# Altium schematic symbol library amirlib.SchLib: 361 symbols (part 2 of 2)
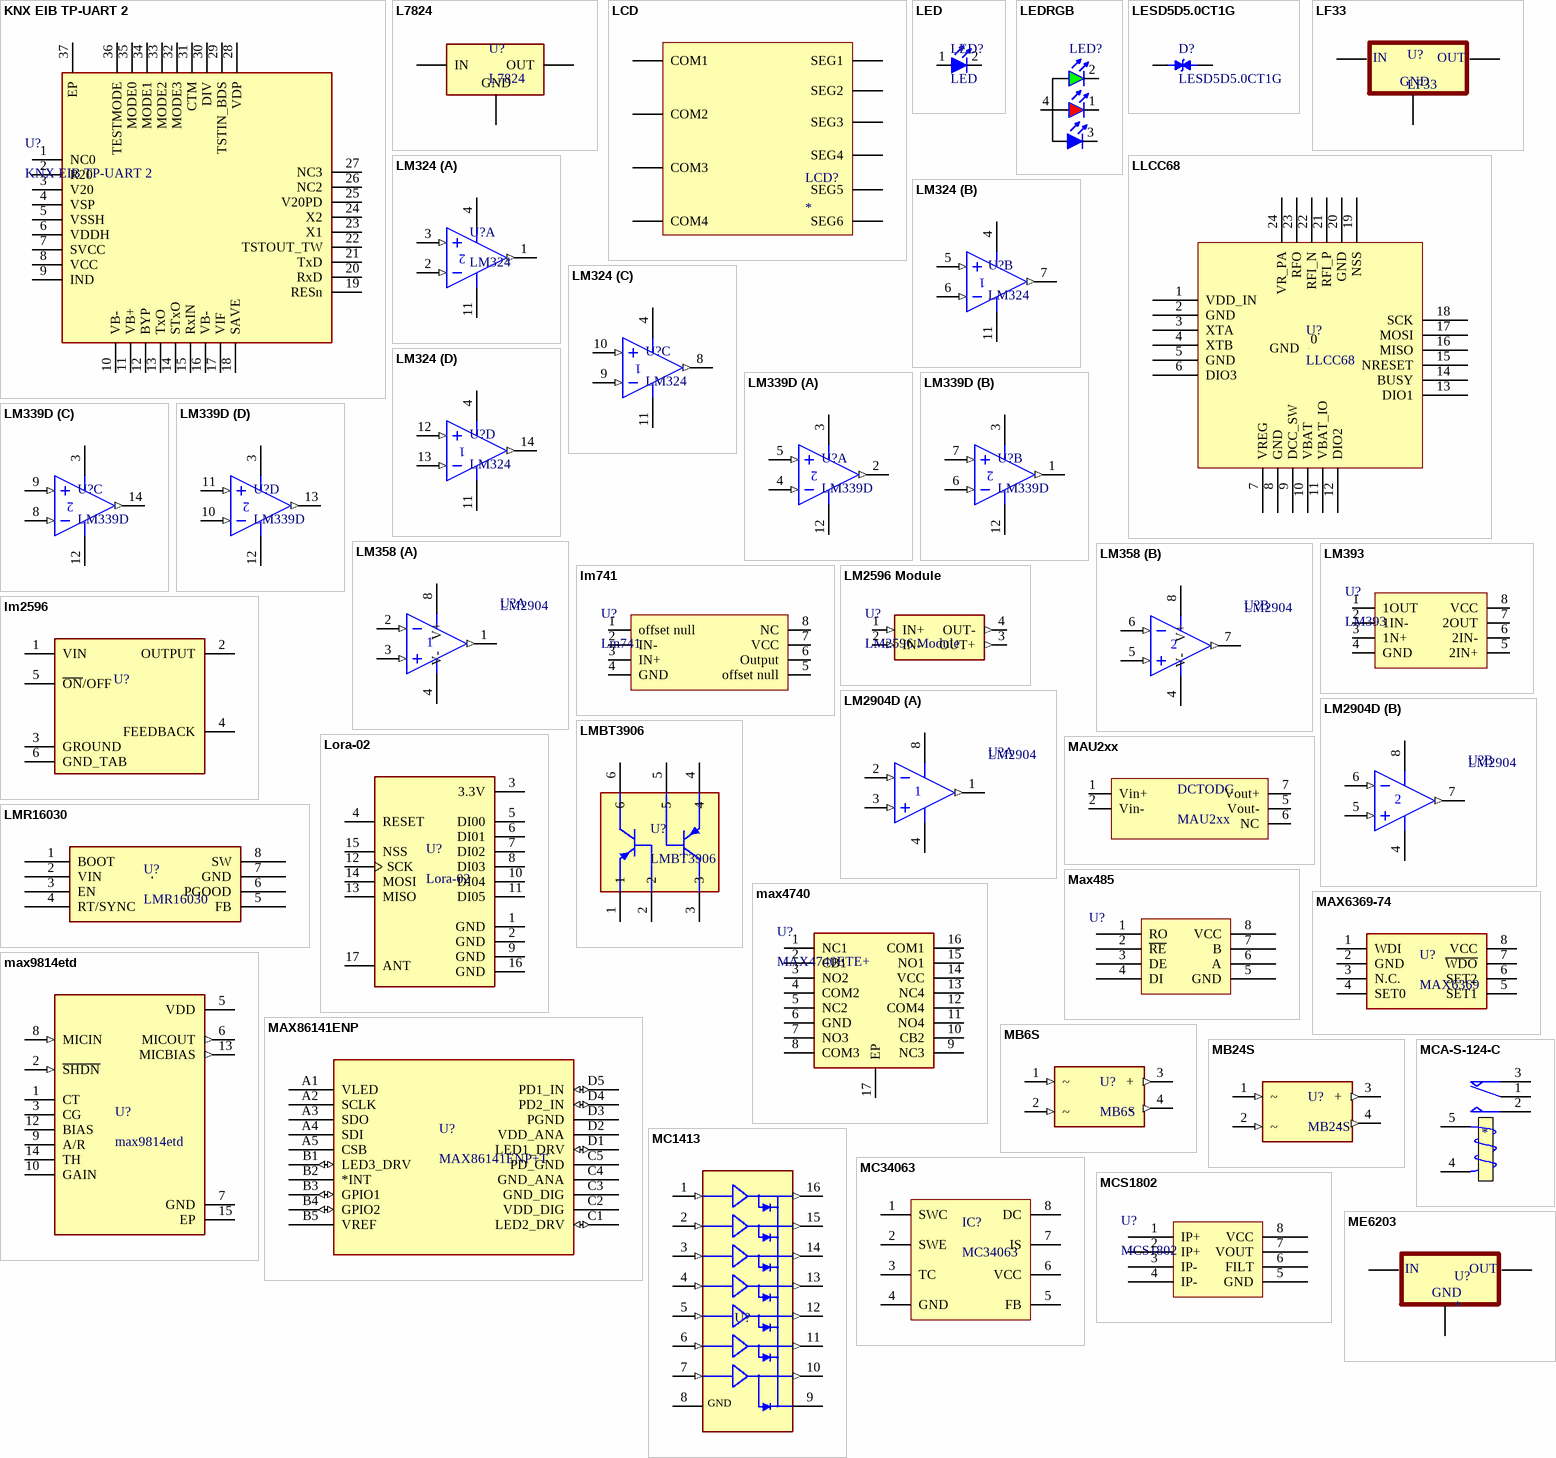
[diagram p11: symbols KNX EIB TP-UART 2 to ME6203]

## MC1413
designator U?  (value not drawn)
High Voltage, High Current / Darlington Transistor Arrays; VALUE: MC1413; SIZE: 18-SOP OR 16-SOP
footprint MC1413
pins: 1 IN_1 (in), 2 IN_2 (in), 3 IN_3 (in), 4 IN_4 (in), 5 IN_5 (in), 6 IN_6 (in), 7 IN_7 (in), 8 GND, 9 COM, 10 OUT_7 (out), 11 OUT_6 (out), 12 OUT_5 (out), 13 OUT_4 (out), 14 OUT_3 (out), 15 OUT_2 (out), 16 OUT_1 (out)

## MC34063
designator IC?
Buck, Boost Switching Regulator IC Positive or Negative Adjustable 1.25V 1 Output 1.5A (Switch) 8-SOIC (0.154, 3.90mm Width); Value: MC34063; Size: SO-8
footprint SO-8
pins: 1 SWC, 2 SWE, 3 TC, 4 GND, 5 FB, 6 VCC, 7 IS, 8 DC

## MCA-S-124-C
designator *  (value not drawn)
footprint MCA-S-124-C
pins: 1 COM, 2 NO, 3 NC, 4 T2, 5 T1

## MCS1802
designator U?
footprint SOIC8
pins: 1 IP+, 2 IP+, 3 IP-, 4 IP-, 5 GND, 6 FILT, 7 VOUT, 8 VCC

## ME6203
designator U?
footprint SOT89-3
pins: 1 OUT, 2 GND, 3 IN

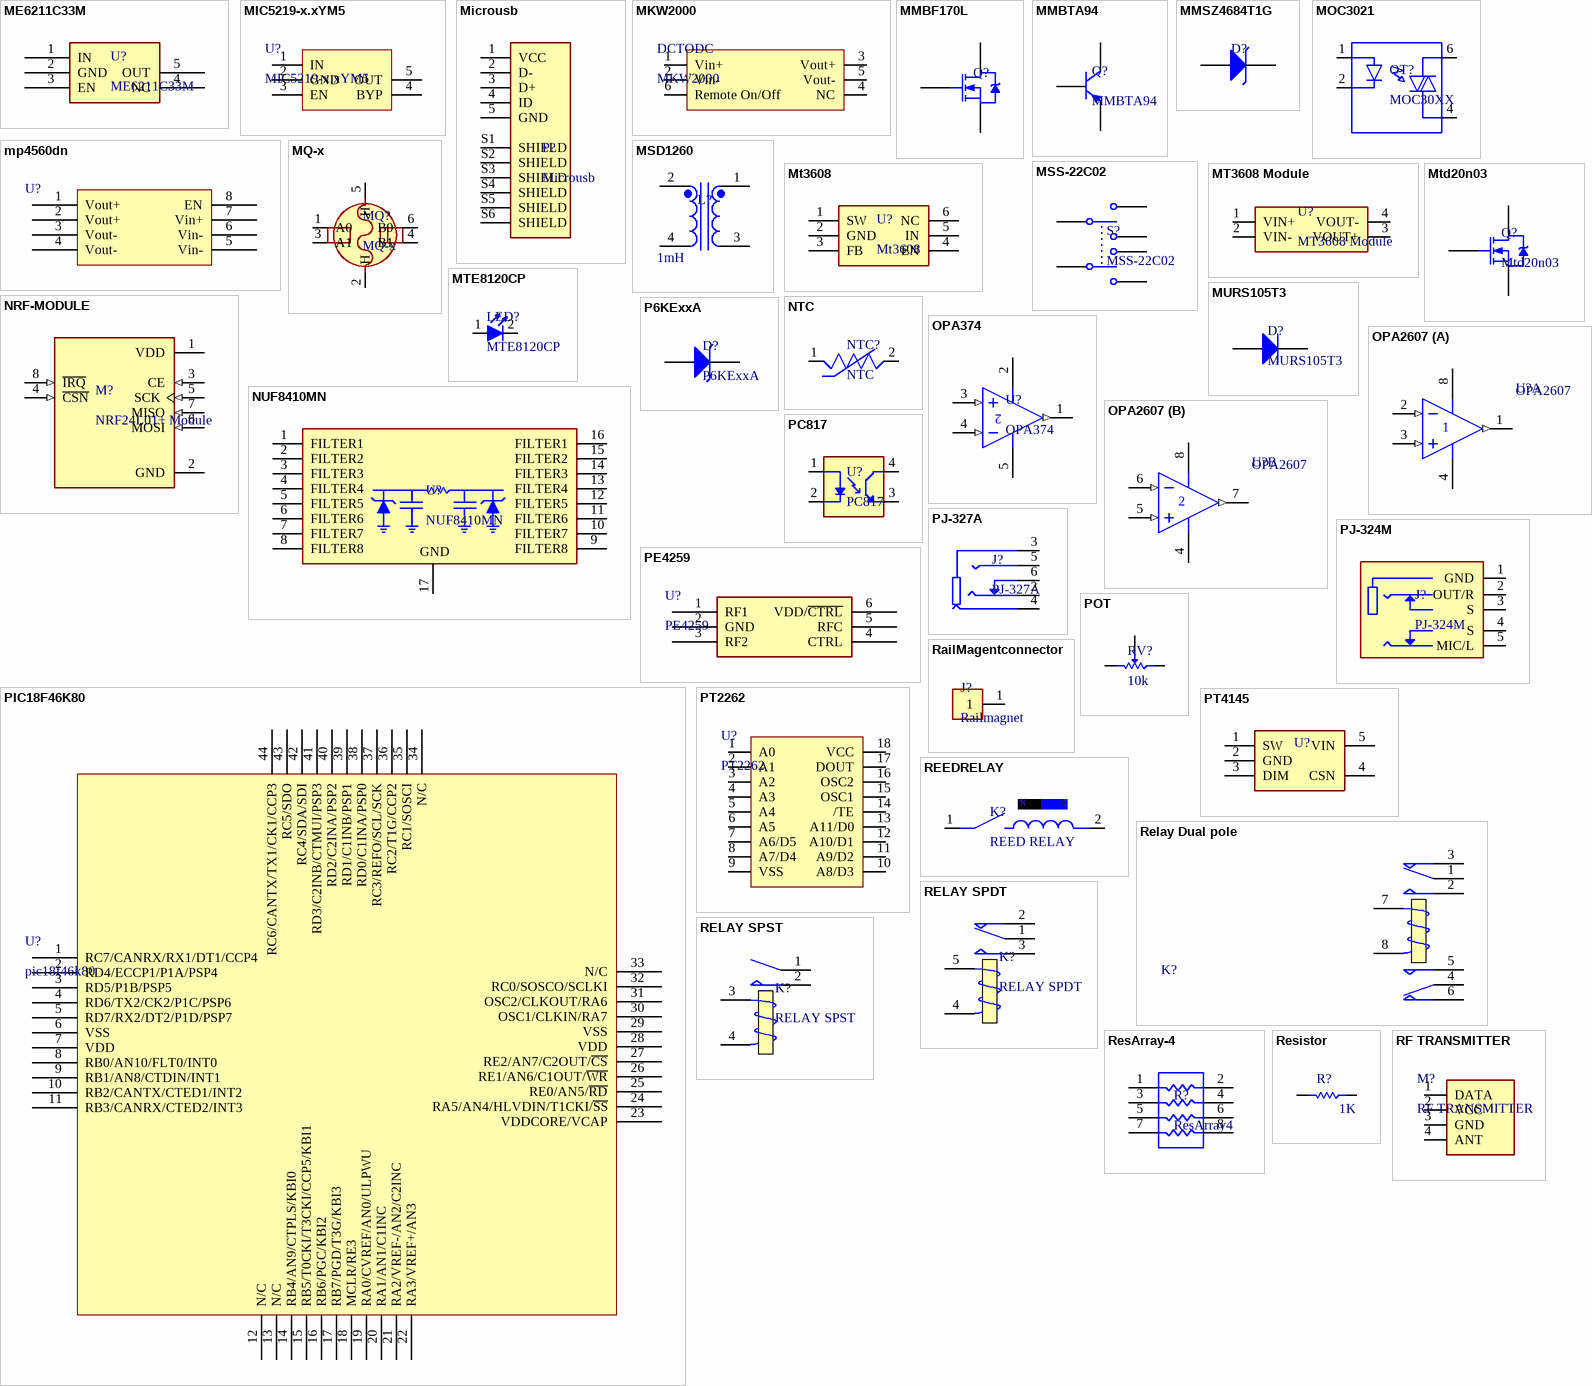
[diagram p7: symbols ME6211C33M to RF TRANSMITTER]

## ME6211C33M
designator U?
High Speed LDO Regulators,High PSRR,Lownoise,ME6211Series
footprint SOT23-5
pins: 1 IN, 2 GND, 3 EN, 4 NC, 5 OUT

## MIC5219-x.xYM5
designator U?
footprint SOT23-5
pins: 1 IN, 2 GND, 3 EN, 4 BYP, 5 OUT

## Microusb
designator P?
footprint microusb
footprint MICROUSB(SMD)
pins: 1 VCC, 2 D-, 3 D+, 4 ID, 5 GND, S1 SHIELD, S2 SHIELD, S3 SHIELD, S4 SHIELD, S5 SHIELD, S6 SHIELD

## MKW2000
designator DCTODC
DC/DC CONVERTER 12W ISOLATED
pins: 1 Vin+, 2 Vin-, 3 Vout+, 4 NC, 5 Vout-, 6 Remote On/Off

## MMBF170L
designator Q?, comment IRLML 2803  (value not drawn)
MOSFET – N-Channel, / SOT-23 / 500 mA, 60 V; VALUE: IRLML 2803; SIZE: SOT-23
footprint sot23
pins: 1 G, 2 D, 3 S

## MMBTA94
designator Q?
footprint sot23
pins: 1 B, 2 E, 3 C

## MMSZ4684T1G
designator D?  (value not drawn)
footprint SOD-123-2
pins: A, K

## MOC3021
designator OT?, comment MOC30XX
Optoisolator Triac; VALUE: MOC30XX; SIZE: PDIP-6 SMD
footprint MOC3021
pins: 1 ANODE, 2 CATODE, 4 MAIN_TERM2, 6 MAIN_TERM1

## mp4560dn
designator U?  (value not drawn)
footprint mp4560dn DC/DC
pins: 1 Vout+, 2 Vout+, 3 Vout-, 4 Vout-, 5 Vin-, 6 Vin-, 7 Vin+, 8 EN

## MQ-x
designator MQ?
Through Hole Gas Sensors
footprint MQ-x
pins: 1 A0, 2 H, 3 A1, 4 B1, 5 H, 6 B0

## MSD1260
designator L?, comment 1mH
VALUE: 1mH
footprint SMD-4P(INDUCTOR)
pins: 1, 2, 3, 4

## MSS-22C02
designator S?
Double-Pole, Double-Throw Switch
footprint MSS-22C02
pins: 1, 2, 3, 4, 5, 6

## Mt3608
designator U?
High Efficiency 1.2MHz / 2A Step Up Converter
footprint SOT23-6
pins: 1 SW, 2 GND, 3 FB, 4 EN, 5 IN, 6 NC

## MT3608 Module
designator U?
High Efficiency 1.2MHz / 2A Step Up Converter
footprint MT3608 MODULE
pins: 1 VIN+, 2 VIN-, 3 VOUT+, 4 VOUT-

## Mtd20n03
designator Q?
N-Channel Power MOSFET
footprint TO-252
pins: 1 G, 2 S, 3 D

## MTE8120CP
designator LED?
5V 1.55V 810nm 160mW SMD LED Emitters - Infrared, UV; VALUE: LED SMD RED; SIZE: SMD 1206
footprint MTE8120CP
pins: 1 A, 2 K

## MURS105T3
designator D?
ULTRAFAST RECTIFIERS / 1.0 AMPERE, 50 VOLTS
footprint DO-214AA(SMB)
pins: 1 A, 2 K

## NRF-MODULE
designator M?, comment NRF24L01+ Module
NRF24L01 MODULE 2.4GHZ,SPI; Voltage: 3.3V; VALUE: NRF24L01+ Module; SIZE: SMD
footprint NRF-MODULE
pins: 1 VDD, 2 GND, 3 CE (in), 4 ~{CSN} (in), 5 SCK (in), 6 MOSI (in), 7 MISO (in), 8 ~{IRQ} (in)

## NTC
designator NTC?
VALUE: NTC; SIZE: Dip
footprint NTC
pins: 1, 2

## NUF8410MN
designator U?
8-Channel EMI Filter with / Integrated ESD Protection
footprint DFN-16(4X1.6MM)
pins: 1 FILTER1, 2 FILTER2, 3 FILTER3, 4 FILTER4, 5 FILTER5, 6 FILTER6, 7 FILTER7, 8 FILTER8, 9 FILTER8, 10 FILTER7, 11 FILTER6, 12 FILTER5, 13 FILTER4, 14 FILTER3, 15 FILTER2, 16 FILTER1, 17 GND

## OPA374
designator U?
6.5-MHz, 585-µA, Rail-to-Rail I/O / CMOS Operational Amplifier
footprint SOT23-5
pins: 1 OUT (out), 2 V+, 3 IN+ (in), 4 IN- (in), 5 V-

## OPA2607
designator U?
50-MHz, Low-Power, Rail-to-Rail Output CMOS Operational Amplifier for / Cost Sensitive Systems; Published: 17-Jul-2002; LatestRevisionDate: 13-Apr-2006; LatestRevisionNote: IPC-7351 Footprint Added.; DatasheetVersion: 1988; PackageReference: 751-02; Publisher: Altium Limited; PackageDescription: 8-Pin Small Outline Integrated Circuit 1.27 mm Pitch; Code_JEDEC: MS-012-AA; Code_IPC: SOIC127P600-8; ComponentLink1Description: Manufacturer Link; ComponentLink1URL: http://www.onsemi.com/site/products/parametrics/0,4446,251,00.html; ComponentLink2Description: Datasheet; ComponentLink2URL: http://www.onsemi.com/pub/Collateral/LM358-D.PDF; VALUE: OPA2607; SIZE: 8-SOIC
3D model 751-02 (8-Pin Small Outline Integrated Circuit 1.27 mm Pitch)
footprint SOP-8
pins on every part: 4 V-, 8 V+
part A pins: 1 OUT (out), 2 IN- (in), 3 IN+ (in)
part B pins: 5 IN+ (in), 6 IN- (in), 7 OUT (out)

## P6KExxA
designator D?
footprint DO-15
pins: 1, 2

## PC817
designator U?
footprint SMD-4
pins: 1, 2, 3, 4

## PE4259
designator U?
SPDT High Power UltraCMOS® / 10 MHz–3.0 GHz RF Switch
footprint SC70-6
pins: 1 RF1, 2 GND, 3 RF2, 4 CTRL, 5 RFC, 6 VDD/~{CTRL}

## PIC18F46K80
designator U?, comment pic18f46k80
Enhanced Flash / Microcontrollers, with ECAN™ / and nanoWatt XLP Technology
footprint TQFP-44
footprint QFN-44(7x7mm) (Footprint not found)
pins: 1 RC7/CANRX/RX1/DT1/CCP4, 2 RD4/ECCP1/P1A/PSP4, 3 RD5/P1B/PSP5, 4 RD6/TX2/CK2/P1C/PSP6, 5 RD7/RX2/DT2/P1D/PSP7, 6 VSS, 7 VDD, 8 RB0/AN10/FLT0/INT0, 9 RB1/AN8/CTDIN/INT1, 10 RB2/CANTX/CTED1/INT2, 11 RB3/CANRX/CTED2/INT3, 12 N/C, 13 N/C, 14 RB4/AN9/CTPLS/KBI0, 15 RB5/T0CKI/T3CKI/CCP5/KBI1, 16 RB6/PGC/KBI2, 17 RB7/PGD/T3G/KBI3, 18 MCLR/RE3, 19 RA0/CVREF/AN0/ULPWU, 20 RA1/AN1/C1INC, 21 RA2/VREF-/AN2/C2INC, 22 RA3/VREF+/AN3, 23 VDDCORE/VCAP, 24 RA5/AN4/HLVDIN/T1CKI/~{SS}, 25 RE0/AN5/~{RD}, 26 RE1/AN6/C1OUT/~{WR}, 27 RE2/AN7/C2OUT/~{CS}, 28 VDD, 29 VSS, 30 OSC1/CLKIN/RA7, 31 OSC2/CLKOUT/RA6, 32 RC0/SOSCO/SCLKI, 33 N/C, 34 N/C, 35 RC1/SOSCI, 36 RC2/T1G/CCP2, 37 RC3/REFO/SCL/SCK, 38 RD0/C1INA/PSP0, 39 RD1/C1INB/PSP1, 40 RD2/C2INA/PSP2, 41 RD3/C2INB/CTMUI/PSP3, 42 RC4/SDA/SDI, 43 RC5/SDO, 44 RC6/CANTX/TX1/CK1/CCP3

## PJ-324M
designator J?
footprint PJ-324M
pins: 1 GND, 2 OUT/R, 3 S, 4 S, 5 MIC/L

## PJ-327A
designator J?
pins: 2 L, 3 GND, 4 MIC, 5 R, 6 SPRING

## POT
designator RV?, comment 10k
footprint POT
pins: 1 CCW, 2 CW, 3 SetPoint

## PT2262
designator U?
footprint SOIC18
pins: 1 A0, 2 A1, 3 A2, 4 A3, 5 A4, 6 A5, 7 A6/D5, 8 A7/D4, 9 VSS, 10 A8/D3, 11 A9/D2, 12 A10/D1, 13 A11/D0, 14 /TE, 15 OSC1, 16 OSC2, 17 DOUT, 18 VCC

## PT4145
designator U?  (value not drawn)
footprint SOT89-5
pins: 1 SW, 2 GND, 3 DIM, 4 CSN, 5 VIN

## RailMagentconnector
designator J?, comment Railmagnet
footprint MAGNET CONNECTOR
pins: 1

## REEDRELAY
designator K?, comment REED RELAY
REED RELAY MAGNETORM; VALUE: REED RELAY; SIZE: Dip
footprint REEDRELAY
pins: 1, 2
text: N; S

## Relay Dual pole
designator K?  (value not drawn)
footprint Relay Dual pole
footprint HJR1-2C
pins: 1 COM, 2 NO, 3 NC, 4 COM, 5 NO, 6 NC, 7 T1, 8 T2

## RELAY SPDT
designator K?
footprint RELAY 18.85x15.35x15.70  - 5pin
footprint TR5V
pins: 1 COM, 2 NO, 3 NO, 4 T2, 5 T1

## RELAY SPST
designator K?
footprint RELAY 18.85x15.35x15.70  - SPST
footprint MPR_S
footprint RELAY 18.85x15.35x15.70  - 5pin
footprint Relay 15.40x12.10x13.10 - 4pin
footprint G5RL-1A-E-HR
pins: 1 COM, 2 NO, 3 T1, 4 T2

## ResArray-4
designator R?, comment ResArray4
VALUE: 1k
footprint ResArray4
pins: 1, 2, 3, 4, 5, 6, 7, 8

## Resistor
designator R?, comment 1K
Power: 1/8 W; SIZE: SMD 1206; VALUE: 1K
footprint RES_SMD_0805
footprint RES_SMD_1206 (Footprint not found)
footprint RES1W-STAND
footprint RES 1W DIP (Footprint not found)
footprint RES_SMD_0603
footprint RES_SMD_0402
footprint RES_SMD_0201
pins: 1, 2

## RF TRANSMITTER
designator M?
RF-Transmitter Module
footprint RF TRANSMITTER
pins: 1 DATA, 2 VCC, 3 GND, 4 ANT

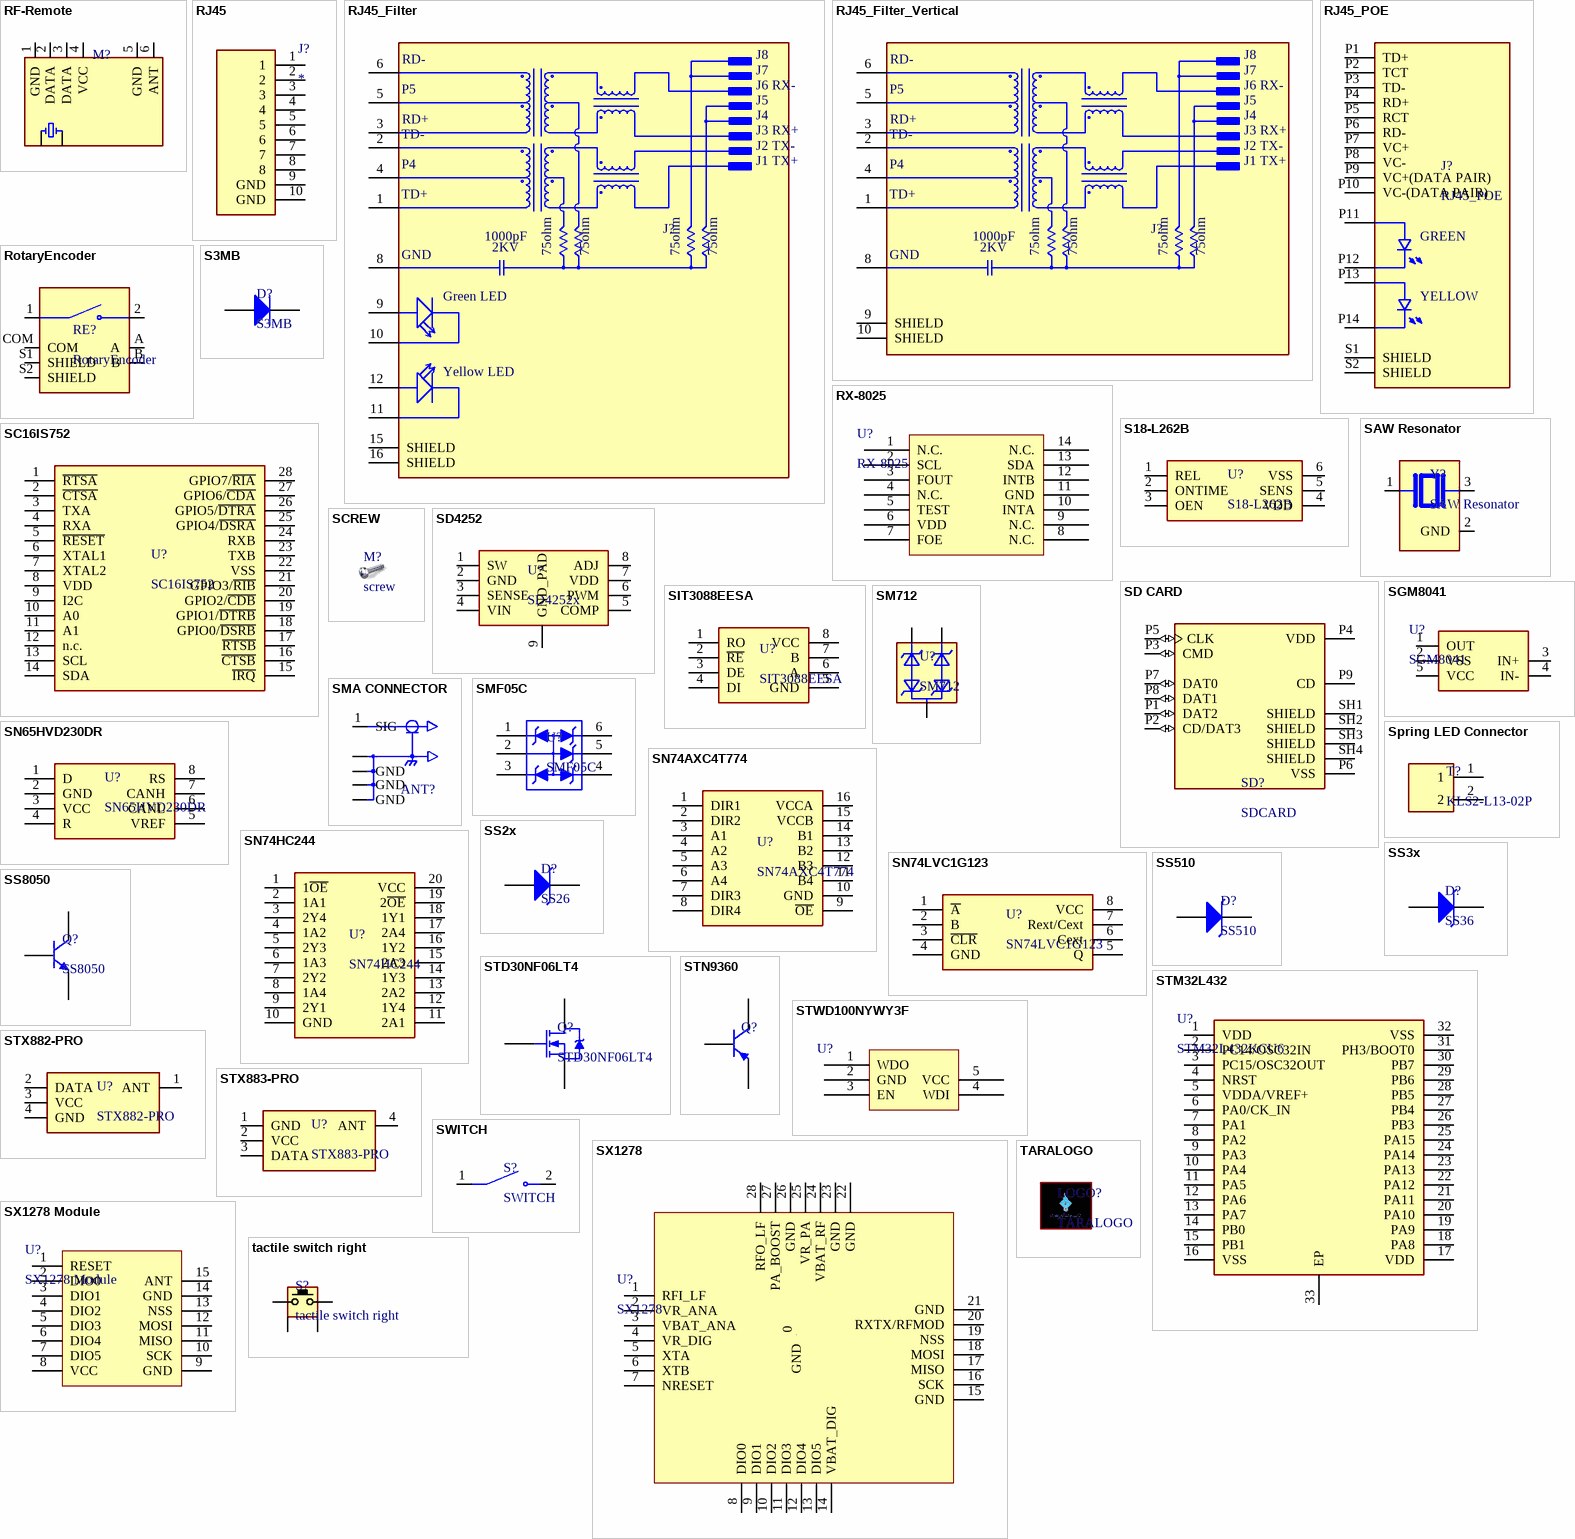
[diagram p8: symbols RF-Remote to TARALOGO]

## RF-Remote
designator M?, comment JR43B  (value not drawn)
RF-Receiver Module; Voltage: 5V; VALUE: JR43B; SIZE: Dip 5pin
footprint JR43B
footprint RXB21
footprint RXB21-STAND (Footprint not found)
footprint JR43B Stand
pins: 1 GND, 2 DATA, 3 DATA, 4 VCC, 5 GND, 6 ANT

## RJ45
designator J?
Modular Jack | Standard | Horizontal (90) | 8P 8C | Unshielded | K1-Keyed
footprint RJ45
pins: 1, 2, 3, 4, 5, 6, 7, 8, 9 GND, 10 GND

## RJ45_Filter
designator J?  (value not drawn)
DIP RJ45 Connector;
footprint RJ45-Filter
pins: 1 TD+, 2 TD-, 3 RD+, 4 P4, 5 P5, 6 RD-, 8 GND (power), 9 GA, 10 GC, 11 YC, 12 YA, 15 SHIELD, 16 SHIELD
text: J8; J7; J6 RX-; J5; J4; J3 RX+; J2 TX-; J1 TX+; 1000pF; 2KV; 75ohm; Green LED; Yellow LED

## RJ45_Filter_Vertical
designator J?, comment RJ45_Filter  (value not drawn)
DIP RJ45 Connector Vertical;
footprint RJ45 Filter vertical
pins: 1 TD+, 2 TD-, 3 RD+, 4 P4, 5 P5, 6 RD-, 8 GND (power), 9 SHIELD, 10 SHIELD
text: J8; J7; J6 RX-; J5; J4; J3 RX+; J2 TX-; J1 TX+; 1000pF; 2KV; 75ohm

## RJ45_POE
designator J?
footprint RJ45-POE
pins: P1 TD+, P2 TCT, P3 TD-, P4 RD+, P5 RCT, P6 RD-, P7 VC+, P8 VC-, P9 VC+(DATA PAIR), P10 VC-(DATA PAIR), P11 G_A, P12 G_C, P13 Y_A, P14 Y_C, S1 SHIELD, S2 SHIELD
text: GREEN; YELLOW

## RotaryEncoder
designator RE?
footprint Rotary Encoder
footprint EC11J1525402
pins: 1, 2, A, B, COM, S1 SHIELD, S2 SHIELD

## RX-8025
designator U?
I2C-Bus Interface Real-time Clock Module
footprint SOP-14
pins: 1 N.C., 2 SCL, 3 FOUT, 4 N.C., 5 TEST, 6 VDD, 7 FOE, 8 N.C., 9 N.C., 10 INTA, 11 GND, 12 INTB, 13 SDA, 14 N.C.

## S3MB
designator D?
footprint DO-214AA(SMB)
pins: 1 A, 2 K

## S18-L262B
designator U?
Mini SMD Digital Pyroelectric Infrared Sensors
footprint S18-L262B-2
pins: 1 REL, 2 ONTIME, 3 OEN, 4 VDD, 5 SENS, 6 VSS

## SAW Resonator
designator Y?
Surface-Acoustic-Wave Resonator
footprint SMD7535
pins: 1 XIN, 2 GND (power), 3 XOUT

## SC16IS752
designator U?
Dual UART with I2C-bus/SPI interface, 64-byte FIFOs, IrDA SIR
footprint TSSOP28
pins: 1 ~{RTSA}, 2 ~{CTSA}, 3 TXA, 4 RXA, 5 ~{RESET}, 6 XTAL1, 7 XTAL2, 8 VDD, 9 I2C, 10 A0, 11 A1, 12 n.c., 13 SCL, 14 SDA, 15 ~{IRQ}, 16 ~{CTSB}, 17 ~{RTSB}, 18 GPIO0/~{DSRB}, 19 GPIO1/~{DTRB}, 20 GPIO2/~{CDB}, 21 GPIO3/~{RIB}, 22 VSS, 23 TXB, 24 RXB, 25 GPIO4/~{DSRA}, 26 GPIO5/~{DTRA}, 27 GPIO6/~{CDA}, 28 GPIO7/~{RIA}

## SCREW
designator M?, comment screw
footprint SCREW 2mm
footprint SCREW
footprint screw 3mm
footprint screw 3mm 2

## SD4252
designator U?, comment SD4252x
HIGH POWER LED DRIVER
footprint ESOP-8
pins: 1 SW, 2 GND, 3 SENSE, 4 VIN, 5 COMP, 6 PWM, 7 VDD, 8 ADJ, 9 GND_PAD

## SD CARD
designator SD?, comment SDCARD
footprint SD CARD
pins: P1 DAT2 (io), P2 CD/DAT3 (io), P3 CMD (io), P4 VDD (power), P5 CLK (io), P6 VSS (power), P7 DAT0 (io), P8 DAT1 (io), P9 CD, SH1 SHIELD (power), SH2 SHIELD (power), SH3 SHIELD (power), SH4 SHIELD (power)

## SGM8041
designator U?
710nA, Single Rail-to-Rail I/O / Operational Amplifier
footprint SOT23-5
pins: 1 OUT, 2 VSS, 3 IN+, 4 IN-, 5 VCC

## SIT3088EESA
designator U?
3.0V~5.5V,  15kV  HBM  ESD-Protected, 14Mbps  Half-Duplex  RS485/RS422 Transceiver
footprint SOP-8
pins: 1 RO, 2 ~{RE}, 3 DE, 4 DI, 5 GND, 6 A, 7 B, 8 VCC

## SM712
designator U?
footprint SOT23
pins: 1, 2, 3

## SMA CONNECTOR
designator ANT?  (value not drawn)
footprint SMA-J-P-H-RA-TH
pins: 1 SIG, 2 GND, 3 GND, 4 GND, 5 GND

## SMF05C
designator U?
TVS Diode Array For ESD and Latch-Up Protection
footprint SC70-6
pins: 1, 2, 3, 4, 5, 6

## SN65HVD230DR
designator U?
SN65HVD23x 3.3-V CAN Bus Transceivers
footprint SOP-8
pins: 1 D, 2 GND, 3 VCC, 4 R, 5 VREF, 6 CANL, 7 CANH, 8 RS

## SN74AXC4T774
designator U?
4-Bit Dual-Supply Bus Transceiver with Independent Direction / Control, Configurable Voltage Translation, and Tri-State Outputs
footprint TSSOP16
pins: 1 DIR1, 2 DIR2, 3 A1, 4 A2, 5 A3, 6 A4, 7 DIR3, 8 DIR4, 9 ~{OE}, 10 GND, 11 B4, 12 B3, 13 B2, 14 B1, 15 VCCB, 16 VCCA

## SN74HC244
designator U?
Octal Buffers and Line Drivers With 3-State Outputs
footprint SOIC20
pins: 1 1~{OE}, 2 1A1, 3 2Y4, 4 1A2, 5 2Y3, 6 1A3, 7 2Y2, 8 1A4, 9 2Y1, 10 GND, 11 2A1, 12 1Y4, 13 2A2, 14 1Y3, 15 2A3, 16 1Y2, 17 2A4, 18 1Y1, 19 2~{OE}, 20 VCC

## SN74LVC1G123
designator U?
SN74LVC1G123 Single Retriggerable Monostable Multivibrator / With Schmitt-Trigger Inputs /
footprint SSOP-8
pins: 1 ~{A}, 2 B, 3 ~{CLR}, 4 GND, 5 Q, 6 Cext, 7 Rext/Cext, 8 VCC

## Spring LED Connector
designator T?, comment KLS2-L13-02P
Thru-Hole Poke-In Wire Lighting Terminal Block
footprint KLS2-L13-02P
pins: 1, 2

## SS2x
designator D?, comment SS26
Surface Mount Schottky Barrier Rectifier
footprint SMA
pins: 1, 2

## SS3x
designator D?, comment SS36
Surface Mount Schottky Barrier Rectifier
footprint SMC
footprint SMA
pins: 1, 2

## SS510
designator D?
Surface Mount Schottky Barrier Rectifiers
footprint DO-214
footprint SMA
pins: 1, 2

## SS8050
designator Q?
footprint SOT23
pins: 1 B, 2 E, 3 C

## STD30NF06LT4
designator Q?
N-Channel 60-V 45A MOSFET
footprint TO-252
pins: 1 G, 2 S, 3 D

## STM32L432
designator U?, comment STM32L432KCU6
Ultra-low-power Arm Cortex-M4 32-bit MCU+FPU, USB FS, analog, audio
footprint QFN-32(5X5mm)
pins: 1 VDD, 2 PC14/OSC32IN, 3 PC15/OSC32OUT, 4 NRST, 5 VDDA/VREF+, 6 PA0/CK_IN, 7 PA1, 8 PA2, 9 PA3, 10 PA4, 11 PA5, 12 PA6, 13 PA7, 14 PB0, 15 PB1, 16 VSS, 17 VDD, 18 PA8, 19 PA9, 20 PA10, 21 PA11, 22 PA12, 23 PA13, 24 PA14, 25 PA15, 26 PB3, 27 PB4, 28 PB5, 29 PB6, 30 PB7, 31 PH3/BOOT0, 32 VSS, 33 EP

## STN9360
designator Q?  (value not drawn)
High voltage fast-switching PNP power transistor
footprint SOT223
pins: 1 B, 2 C, 3 E, 4

## STWD100NYWY3F
designator U?  (value not drawn)
Watchdog circuit
footprint SOT23-5
pins: 1 WDO, 2 GND, 3 EN, 4 WDI, 5 VCC

## STX882-PRO
designator U?
100mW ASK Transmitter Module
footprint STX882PRO
pins: 1 ANT, 2 DATA, 3 VCC, 4 GND

## STX883-PRO
designator U?
433MHz High Power CE-RED & FCC ID Certified ASK Transmitter Module
footprint STX883PRO
pins: 1 GND, 2 VCC, 3 DATA, 4 ANT

## SWITCH
designator S?
footprint 2PIN
footprint slide switch spst
pins: 1, 2

## SX1278
designator U?
137 MHz to 1020 MHz Low Power Long Range Transceiver
footprint VQFN-28
pins: 0 GND, 1 RFI_LF, 2 VR_ANA, 3 VBAT_ANA, 4 VR_DIG, 5 XTA, 6 XTB, 7 NRESET, 8 DIO0, 9 DIO1, 10 DIO2, 11 DIO3, 12 DIO4, 13 DIO5, 14 VBAT_DIG, 15 GND, 16 SCK, 17 MISO, 18 MOSI, 19 NSS, 20 RXTX/RFMOD, 21 GND, 22 GND, 23 GND, 24 VBAT_RF, 25 VR_PA, 26 GND, 27 PA_BOOST, 28 RFO_LF

## SX1278 Module
designator U?
20dBm LoRa Long Range RF Front-end Module
footprint SX1278 Module
pins: 1 RESET, 2 DIO0, 3 DIO1, 4 DIO2, 5 DIO3, 6 DIO4, 7 DIO5, 8 VCC, 9 GND, 10 SCK, 11 MISO, 12 MOSI, 13 NSS, 14 GND, 15 ANT

## tactile switch right
designator S?
footprint tactile switch smd right
footprint TACTILE SWITCH SMD RIGHT ANGLE EDGE
footprint TACTILE SWITCH SMD  RIGHT 2X4mm
footprint tactile switch DIP right
pins: 1, 2, S1, S2

## TARALOGO
designator LOGO?
footprint TARALOGO1
footprint TARALOGO2

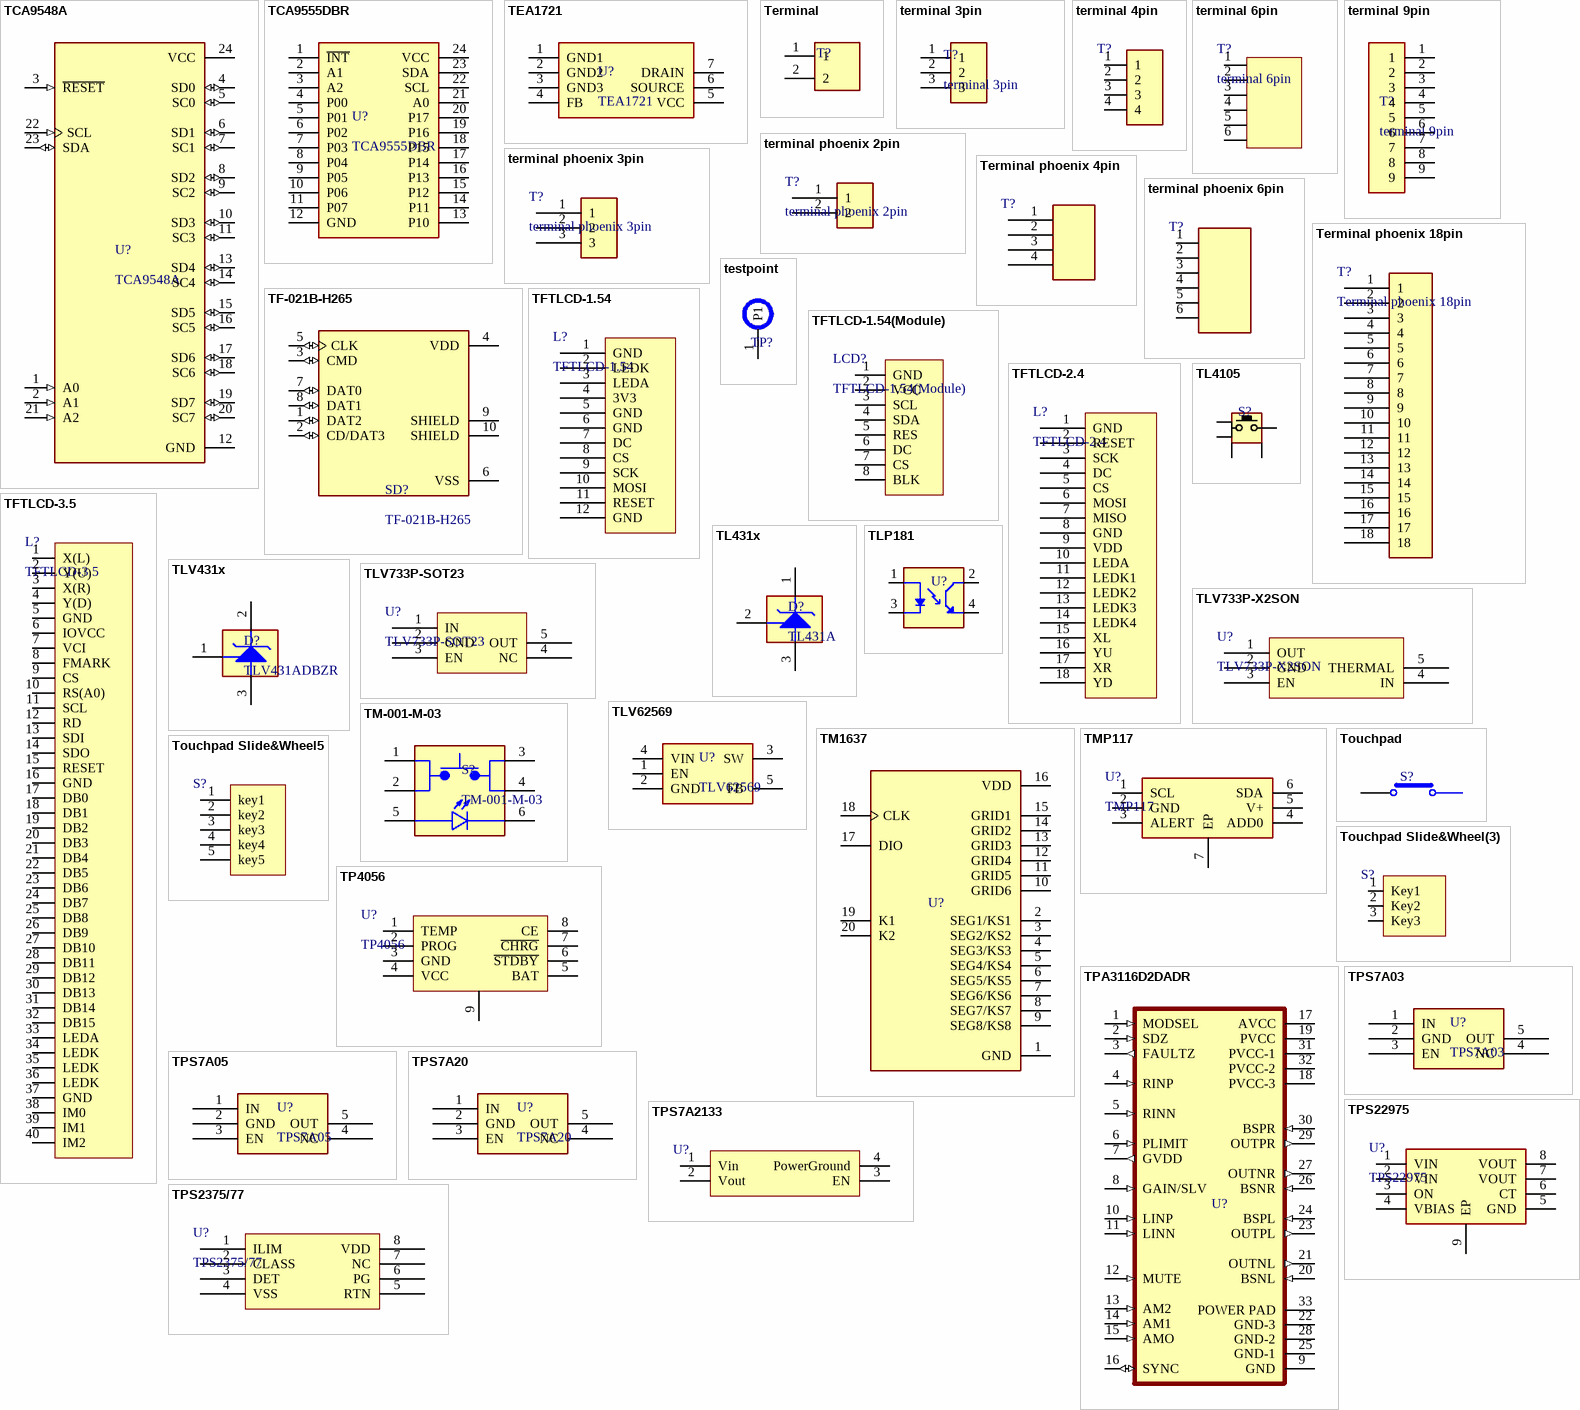
[diagram p9: symbols TCA9548A to TPS22975]

## TCA9548A
designator U?
Low-Voltage 8-Channel I2C Switch with Reset
footprint TSSOP24
pins: 1 A0 (in), 2 A1 (in), 3 ~{RESET} (in), 4 SD0 (io), 5 SC0 (io), 6 SD1 (io), 7 SC1 (io), 8 SD2 (io), 9 SC2 (io), 10 SD3 (io), 11 SC3 (io), 12 GND (power), 13 SD4 (io), 14 SC4 (io), 15 SD5 (io), 16 SC5 (io), 17 SD6 (io), 18 SC6 (io), 19 SD7 (io), 20 SC7 (io), 21 A2 (in), 22 SCL (in), 23 SDA (io), 24 VCC (power)

## TCA9555DBR
designator U?
Low-Voltage 8-Channel I2C Switch with Reset
footprint SSOP-24B
pins: 1 ~{INT}, 2 A1, 3 A2, 4 P00, 5 P01, 6 P02, 7 P03, 8 P04, 9 P05, 10 P06, 11 P07, 12 GND, 13 P10, 14 P11, 15 P12, 16 P13, 17 P14, 18 P15, 19 P16, 20 P17, 21 A0, 22 SCL, 23 SDA, 24 VCC

## TEA1721
designator U?
HV start-up flyback controller with integrated MOSFET for 5 W
footprint SOIC7
pins: 1 GND1, 2 GND2, 3 GND3, 4 FB, 5 VCC, 6 SOURCE, 7 DRAIN

## Terminal
designator T?
footprint terminal phoenix 2pin
footprint Terminal 2pin
footprint TERMINAL 2PIN(PITCH:7.62MM)
footprint terminal 2pin(pitch:3.81mm)
footprint XY119A-5.0-2P
footprint TERMINAL 2PIN(PITCH:6.35MM)
pins: 1, 2

## terminal 3pin
designator T?
footprint XY119A-5.0-3P
footprint TERMINAL 3PIN(PITCH:6.35MM)
pins: 1, 2, 3

## terminal 4pin
designator T?  (value not drawn)
footprint terminal 4pin
footprint TERMINAL 4PIN(PITCH:6.35MM)
pins: 1, 2, 3, 4

## terminal 6pin
designator T?
footprint terminal 6pin 7.5mm (pin gap:7.5mm)
footprint TERMINAL6PIN
pins: 1, 2, 3, 4, 5, 6

## terminal 9pin
designator T?
footprint TERMINAL9PIN
pins: 1, 2, 3, 4, 5, 6, 7, 8, 9

## terminal phoenix 2pin
designator T?
footprint terminal phoenix right- 2pin
pins: 1, 2

## terminal phoenix 3pin
designator T?
footprint terminal phoenix right- 3pin
pins: 1, 2, 3

## Terminal phoenix 4pin
designator T?  (value not drawn)
footprint Terminal phoenix 4pin(3.81mm)
footprint terminal phoenix straight -4pin(dip)
footprint terminal phoenix right -4pin(dip)
footprint Terminal phoenix 4pin straight(3.81mm)
pins: 1, 2, 3, 4

## terminal phoenix 6pin
designator T?  (value not drawn)
footprint terminal phoenix right-6pin
footprint terminal phoenix right-6pin(dip) (Footprint not found)
footprint terminal phoenix straight -6pin(dip)
pins: 1, 2, 3, 4, 5, 6

## Terminal phoenix 18pin
designator T?
footprint terminal phoenix right-18pin
pins: 1, 2, 3, 4, 5, 6, 7, 8, 9, 10, 11, 12, 13, 14, 15, 16, 17, 18

## testpoint
designator TP?  (value not drawn)  (no BOM)
footprint testpoint(smd)
footprint testpoint(dip)
footprint testpoint pad
footprint TESTPOINT(5003)
pins: 1 P1

## TF-021B-H265
designator SD?
CONN MICRO SD CARD (TF CARD) SMD
footprint TF-021B-H265
pins: 1 DAT2 (io), 2 CD/DAT3 (io), 3 CMD (io), 4 VDD (power), 5 CLK (io), 6 VSS (power), 7 DAT0 (io), 8 DAT1 (io), 9 SHIELD (power), 10 SHIELD (power)

## TFTLCD-1.54
designator L?
footprint TFTLCD-1.54
footprint TFTLCD-1.54(flatunderlcd)
pins: 1 GND, 2 LEDK, 3 LEDA, 4 3V3, 5 GND, 6 GND, 7 DC, 8 CS, 9 SCK, 10 MOSI, 11 RESET, 12 GND

## TFTLCD-1.54(Module)
designator LCD?
footprint TFTLCD-1.54(Module)
pins: 1 GND, 2 VCC, 3 SCL, 4 SDA, 5 RES, 6 DC, 7 CS, 8 BLK

## TFTLCD-2.4
designator L?
footprint TFTLCD-2.4
pins: 1 GND, 2 RESET, 3 SCK, 4 DC, 5 CS, 6 MOSI, 7 MISO, 8 GND, 9 VDD, 10 LEDA, 11 LEDK1, 12 LEDK2, 13 LEDK3, 14 LEDK4, 15 XL, 16 YU, 17 XR, 18 YD

## TFTLCD-3.5
designator L?
footprint TFTLCD-3.5
pins: 1 X(L), 2 Y(U), 3 X(R), 4 Y(D), 5 GND, 6 IOVCC, 7 VCI, 8 FMARK, 9 CS, 10 RS(A0), 11 SCL, 12 RD, 13 SDI, 14 SDO, 15 RESET, 16 GND, 17 DB0, 18 DB1, 19 DB2, 20 DB3, 21 DB4, 22 DB5, 23 DB6, 24 DB7, 25 DB8, 26 DB9, 27 DB10, 28 DB11, 29 DB12, 30 DB13, 31 DB14, 32 DB15, 33 LEDA, 34 LEDK, 35 LEDK, 36 LEDK, 37 GND, 38 IM0, 39 IM1, 40 IM2

## THT LOGO
designator ?  (value not drawn)
footprint THT LOGO

## TL431x
designator D?, comment TL431A
Precision Programmable Reference
footprint SOT23
pins: 1, 2, 3

## TL4105
designator S?, comment Tactile Switch Right Angle Edge  (value not drawn)
footprint TL4051(TACTILE SWITCH RIGHT ANGLE EDGE)
pins: 1, 2, 3, SH1, SH2

## TLP181
designator U?  (value not drawn)
footprint sop-4
pins: 1, 2, 3, 4

## TLV431x
designator D?, comment TLV431ADBZR
Low-Voltage Adjustable Precision Shunt Regulator
footprint SOT23
pins: 1, 2, 3

## TLV733P-SOT23
designator U?
footprint SOT23-5
pins: 1 IN, 2 GND, 3 EN, 4 NC, 5 OUT

## TLV733P-X2SON
designator U?
footprint X2SON
pins: 1 OUT, 2 GND, 3 EN, 4 IN, 5 THERMAL

## TLV62569
designator U?
TLV62569 2-A High Efficiency Synchronous Buck Converter in SOT Package
footprint SOT23-5
pins: 1 EN, 2 GND, 3 SW, 4 VIN, 5 FB

## TM1637
designator U?  (value not drawn)
7seg Drive Control Special Circuit; VALUE: TM1637; SIZE: 20-SOP
footprint SOP-20
pins: 1 GND, 2 SEG1/KS1, 3 SEG2/KS2, 4 SEG3/KS3, 5 SEG4/KS4, 6 SEG5/KS5, 7 SEG6/KS6, 8 SEG7/KS7, 9 SEG8/KS8, 10 GRID6, 11 GRID5, 12 GRID4, 13 GRID3, 14 GRID2, 15 GRID1, 16 VDD, 17 DIO, 18 CLK, 19 K1, 20 K2

## TM-001-M-03
designator S?
Tactile Switch SPST-NO Top Actuated Surface Mount
footprint TM-001-M-03
pins: 1, 2, 3, 4, 5, 6

## TMP117
designator U?
TMP117 High-Accuracy, Low-Power, Digital Temperature SensorWith SMBus™- and I2C-Compatible Interface
footprint WDFN-6-EP(2x2)
pins: 1 SCL, 2 GND, 3 ALERT, 4 ADD0, 5 V+, 6 SDA, 7 EP

## Touchpad
designator S?  (value not drawn)
VALUE: Touchpad
footprint Touchpad
footprint Touchpad20
footprint key_rectangle
footprint Touchpad w polygon (Footprint not found)
footprint TOUCHPAD 8x9mm
footprint Touchpad 12x6mm
footprint Touchpad20(rectangle)
footprint Touchpad15(rectangle)
footprint Touchspring
pins: 1

## Touchpad Slide&Wheel5
designator S?  (value not drawn)
footprint Slide & Wheel5
pins: 1 key1, 2 key2, 3 key3, 4 key4, 5 key5

## Touchpad Slide&Wheel(3)
designator S?
footprint Touchpad Slide&Wheel3
pins: 1 Key1, 2 Key2, 3 Key3

## TP4056
designator U?
1A Standalone Linear Li-lon Battery Charger with Thermal
footprint ESOP-8
pins: 1 TEMP, 2 PROG, 3 GND, 4 VCC, 5 BAT, 6 ~{STDBY}, 7 ~{CHRG}, 8 CE, 9 GND_PAD

## TPA3116D2DADR
designator U?  (value not drawn)
50-W stereo, 100-W mono, 4.5- to 26-V supply, analog input Class-D audio amplifier w/ SpeakerGuard 32-HTSSOP -40 to 85
footprint HTSSOP-32 (Footprint not found)
pins: 1 MODSEL (in), 2 SDZ (in), 3 FAULTZ (out), 4 RINP (in), 5 RINN (in), 6 PLIMIT (in), 7 GVDD (out), 8 GAIN/SLV (in), 9 GND (power), 10 LINP (in), 11 LINN (in), 12 MUTE (in), 13 AM2 (in), 14 AM1 (in), 15 AMO (in), 16 SYNC (io), 17 AVCC (power), 18 PVCC-3 (power), 19 PVCC (power), 20 BSNL (in), 21 OUTNL (out), 22 GND-3 (power), 23 OUTPL (out), 24 BSPL (in), 25 GND-1 (power), 26 BSNR (in), 27 OUTNR (out), 28 GND-2 (power), 29 OUTPR (out), 30 BSPR (in), 31 PVCC-1 (power), 32 PVCC-2 (power), 33 POWER PAD

## TPS7A03
designator U?
TPS7A03 Nanopower IQ, 200-nA, 200-mA, Low-Dropout Voltage Regulator With Fast / Transient Response
footprint SOT23-5
pins: 1 IN, 2 GND, 3 EN, 4 NC, 5 OUT

## TPS7A05
designator U?
TPS7A05 1-μA Ultralow IQ, 200-mA, Low-Dropout Regulator
footprint SOT23-5
pins: 1 IN, 2 GND, 3 EN, 4 NC, 5 OUT

## TPS7A20
designator U?
LDO Voltage Regulators 300-mA ultra-low-noise low-IQ low-dropout (LDO) linear regulator with high PSRR
footprint SOT23-5
pins: 1 IN, 2 GND, 3 EN, 4 NC, 5 OUT

## TPS7A2133
designator U?  (value not drawn)
footprint DSBGA-4
pins: 1 Vin, 2 Vout, 3 EN, 4 PowerGround

## TPS2375/77
designator U?
IEEE 802.3af PoE POWERED DEVICE CONTROLLERS
footprint TSSOP8
footprint SOIC8
pins: 1 ILIM, 2 CLASS, 3 DET, 4 VSS, 5 RTN, 6 PG, 7 NC, 8 VDD

## TPS22975
designator U?
5.7-V, 6-A, 16-mΩ On-Resistance Load Switch
footprint WSON-8
pins: 1 VIN, 2 VIN, 3 ON, 4 VBIAS, 5 GND, 6 CT, 7 VOUT, 8 VOUT, 9 EP

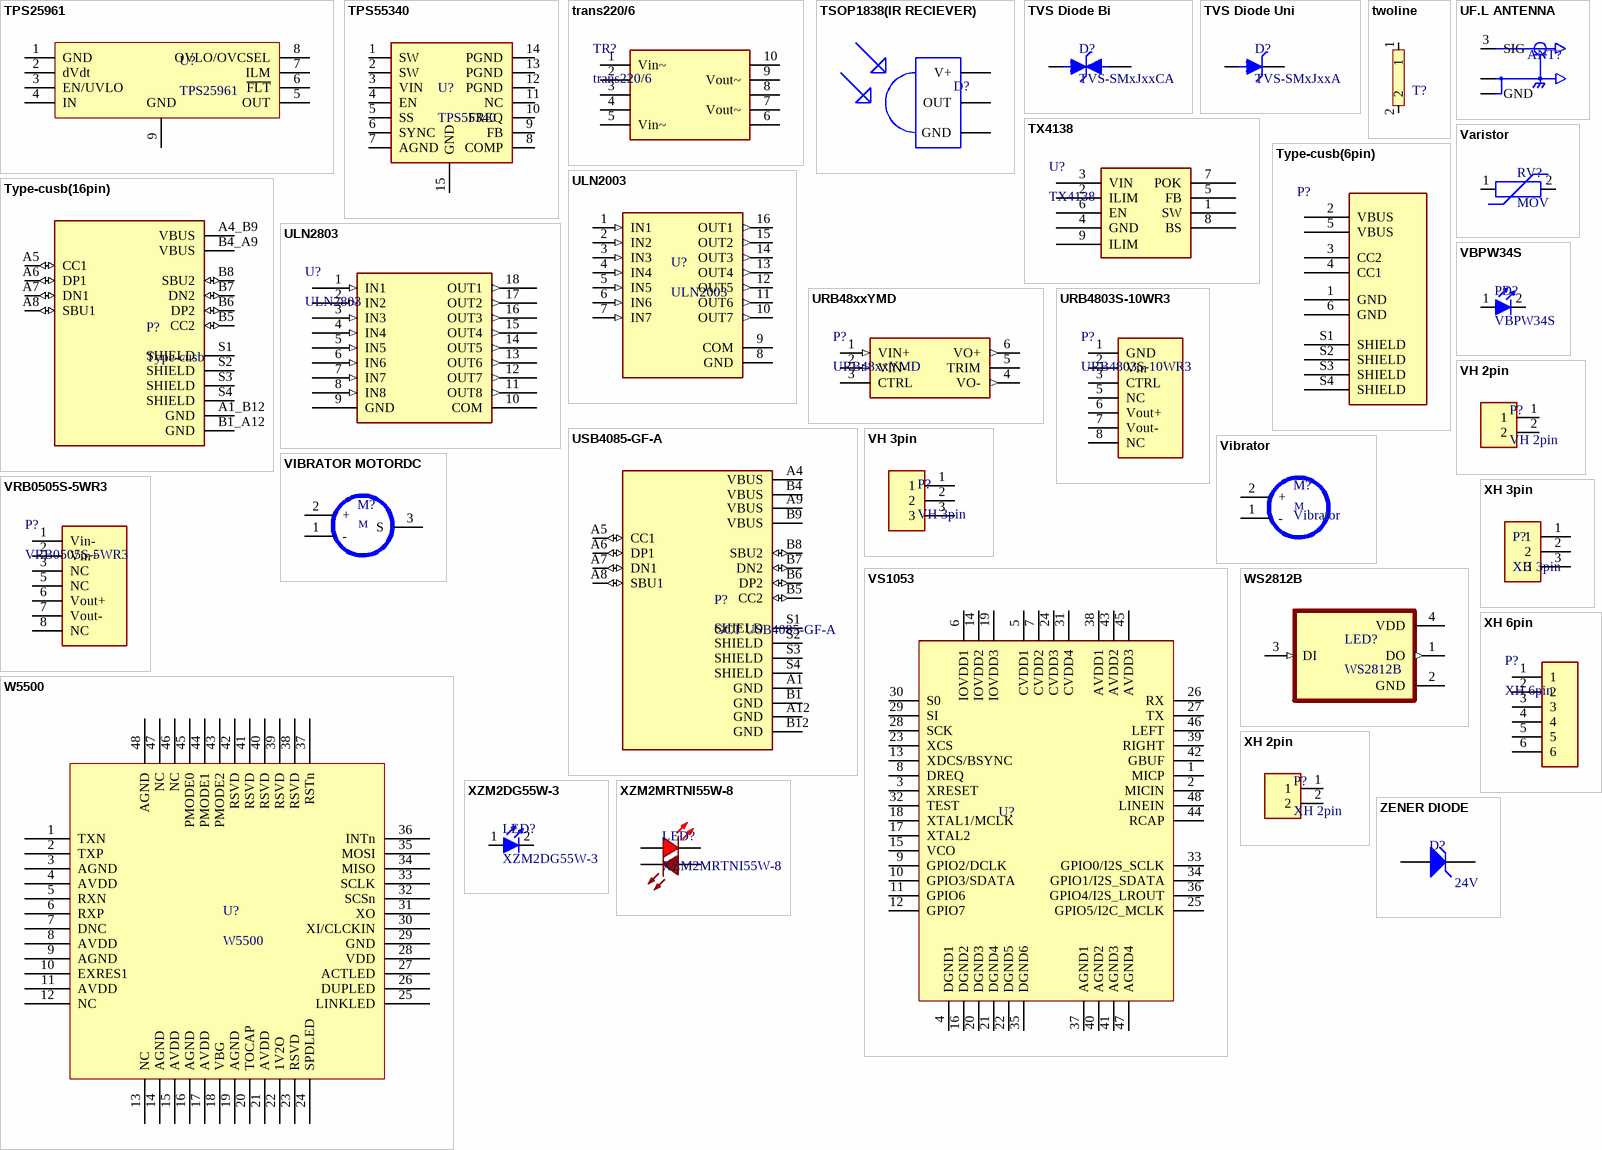
[diagram p10: symbols TPS25961 to ZENER DIODE]

## TPS25961
designator U?
TPS2596 2.7 to 19 V, 0.125 to 2-A, 89-mΩ eFuse With Accurate Current Monitor and Fast Overvoltage Protection
footprint HSOIC-8
pins: 1 GND, 2 dVdt, 3 EN/UVLO, 4 IN, 5 OUT, 6 ~{FLT}, 7 ILM, 8 OVLO/OVCSEL, 9

## TPS55340
designator U?
Integrated 5-A Wide Input Range Boost/SEPIC/Flyback DC-DC Regulator
footprint HTSSOP-14
pins: 1 SW, 2 SW, 3 VIN, 4 EN, 5 SS, 6 SYNC, 7 AGND, 8 COMP, 9 FB, 10 FREQ, 11 NC, 12 PGND, 13 PGND, 14 PGND, 15 GND

## trans220/6
designator TR?
trans220V to 6V 300mA
footprint Trans41/14
pins: 1 Vin~, 2, 3, 4, 5 Vin~, 6, 7 Vout~, 8, 9 Vout~, 10

## TSOP1838(IR RECIEVER)
designator D?  (value not drawn)
footprint TSOP18XX(IR RECEIVER)
pins: 1 V+, 2 GND, 3 OUT

## TVS Diode Bi
designator D?, comment TVS-SMxJxxCA
footprint DO-214
footprint DO-214AA(SMB)
pins: 1, 2

## TVS Diode Uni
designator D?, comment TVS-SMxJxxA
footprint DO-214
footprint DO-214AA(SMB)
footprint SMA
pins: 1, 2

## twoline
designator T?  (value not drawn)
footprint twolinegnd (Footprint not found)
pins: 1, 2

## TX4138
designator U?
4A, 60V, 200KHz Step-Down Converter
footprint ESOP-8
pins: 1 SW, 2 ILIM, 3 VIN, 4 GND, 5 FB, 6 EN, 7 POK, 8 BS, 9 ILIM

## Type-cusb(6pin)
designator P?, comment Type-cusb  (value not drawn)
footprint Typecusb
pins: 1 GND, 2 VBUS, 3 CC2, 4 CC1, 5 VBUS, 6 GND, S1 SHIELD, S2 SHIELD, S3 SHIELD, S4 SHIELD

## Type-cusb(16pin)
designator P?, comment Type-cusb
footprint typecusb(16pin)
pins: A1_B12 GND (power), A4_B9 VBUS (power), A5 CC1 (io), A6 DP1 (io), A7 DN1 (io), A8 SBU1 (io), B1_A12 GND (power), B4_A9 VBUS (power), B5 CC2 (io), B6 DP2 (io), B7 DN2 (io), B8 SBU2 (io), S1 SHIELD, S2 SHIELD, S3 SHIELD, S4 SHIELD

## UF.L ANTENNA
designator ANT?  (value not drawn)
footprint UF.LSMD
pins: 1 GND, 2 GND, 3 SIG

## ULN2003
designator U?
Seven Darlington arrays
footprint SOIC16
pins: 1 IN1 (in), 2 IN2 (in), 3 IN3 (in), 4 IN4 (in), 5 IN5 (in), 6 IN6 (in), 7 IN7 (in), 8 GND (power), 9 COM (power), 10 OUT7 (out), 11 OUT6 (out), 12 OUT5 (out), 13 OUT4 (out), 14 OUT3 (out), 15 OUT2 (out), 16 OUT1 (out)

## ULN2803
designator U?
Darlington Transistor Arrays
footprint SOIC18
pins: 1 IN1 (in), 2 IN2 (in), 3 IN3 (in), 4 IN4 (in), 5 IN5 (in), 6 IN6 (in), 7 IN7 (in), 8 IN8 (in), 9 GND (power), 10 COM (power), 11 OUT8 (out), 12 OUT7 (out), 13 OUT6 (out), 14 OUT5 (out), 15 OUT4 (out), 16 OUT3 (out), 17 OUT2 (out), 18 OUT1 (out)

## URB48xxYMD
designator P?
15W, ultra-wide input voltage, isolated regulated single-output DC-DC modular power supply.
footprint URB4805YMD-15WR3
pins: 1 VIN+ (in), 2 VIN- (in), 3 CTRL, 4 VO- (out), 5 TRIM, 6 VO+ (out)

## URB4803S-10WR3
designator P?
3.3V 18V~75V SIP,22x9.5mm DC DC Converters
footprint SIP,22x9.5mm
pins: 1 GND, 2 Vin, 3 CTRL, 5 NC, 6 Vout+, 7 Vout-, 8 NC

## USB4085-GF-A
designator P?, comment GCT USB4085-GF-A
footprint USB4085-GF-A
pins: A1 GND (power), A4 VBUS (power), A5 CC1 (io), A6 DP1 (io), A7 DN1 (io), A8 SBU1 (io), A9 VBUS (power), A12 GND (power), B1 GND (power), B4 VBUS (power), B5 CC2 (io), B6 DP2 (io), B7 DN2 (io), B8 SBU2 (io), B9 VBUS (power), B12 GND (power), S1 SHIELD, S2 SHIELD, S3 SHIELD, S4 SHIELD

## Varistor
designator RV?, comment MOV
footprint DISC-14
pins: 1, 2

## VBPW34S
designator PD?
Silicon PIN Photodiode; VALUE: LED SMD RED; SIZE: SMD 1206
footprint SMD,4.4x3.9mm
pins: 1 A, 2 K

## VH 2pin
designator P?
size: pitch:5mm
footprint VH 2PIN(PITCH:5mm)
footprint VH 2PIN Right (PITCH:5mm)
pins: 1, 2

## VH 3pin
designator P?
size: pitch:5mm
footprint VH 3pin(PITCH:5mm)
footprint VH 3PIN Right (PITCH:5mm)
pins: 1, 2, 3

## Vibrator
designator M?
footprint vibrator
pins: 1 -, 2 +
text: M

## VIBRATOR MOTORDC
designator M?  (value not drawn)
footprint VIBRATOR MOTORDC
pins: 1 -, 2 +, 3 S
text: M

## VRB0505S-5WR3
designator P?
footprint SIP,22x9.5mm
pins: 1 Vin-, 2 Vin+, 3 NC, 5 NC, 6 Vout+, 7 Vout-, 8 NC

## VS1053
designator U?  (value not drawn)
footprint LQFP-48
pins: 1 MICP, 2 MICIN, 3 XRESET, 4 DGND1, 5 CVDD1, 6 IOVDD1, 7 CVDD2, 8 DREQ, 9 GPIO2/DCLK, 10 GPIO3/SDATA, 11 GPIO6, 12 GPIO7, 13 XDCS/BSYNC, 14 IOVDD2, 15 VCO, 16 DGND2, 17 XTAL2, 18 XTAL1/MCLK, 19 IOVDD3, 20 DGND3, 21 DGND4, 22 DGND5, 23 XCS, 24 CVDD3, 25 GPIO5/I2C_MCLK, 26 RX, 27 TX, 28 SCK, 29 SI, 30 S0, 31 CVDD4, 32 TEST, 33 GPIO0/I2S_SCLK, 34 GPIO1/I2S_SDATA, 35 DGND6, 36 GPIO4/I2S_LROUT, 37 AGND1, 38 AVDD1, 39 RIGHT, 40 AGND2, 41 AGND3, 42 GBUF, 43 AVDD2, 44 RCAP, 45 AVDD3, 46 LEFT, 47 AGND4, 48 LINEIN

## W5500
designator U?
W5500 is a Hardwired TCP/IP stack internet controller chip with WIZnet technology, which provides easy internet connectivity to an external MCU via an SPI interface of up to 80MHz.
footprint LQFP-48
pins: 1 TXN, 2 TXP, 3 AGND, 4 AVDD, 5 RXN, 6 RXP, 7 DNC, 8 AVDD, 9 AGND, 10 EXRES1, 11 AVDD, 12 NC, 13 NC, 14 AGND, 15 AVDD, 16 AGND, 17 AVDD, 18 VBG, 19 AGND, 20 TOCAP, 21 AVDD, 22 1V2O, 23 RSVD, 24 SPDLED, 25 LINKLED, 26 DUPLED, 27 ACTLED, 28 VDD, 29 GND, 30 XI/CLCKIN, 31 XO, 32 SCSn, 33 SCLK, 34 MISO, 35 MOSI, 36 INTn, 37 RSTn, 38 RSVD, 39 RSVD, 40 RSVD, 41 RSVD, 42 RSVD, 43 PMODE2, 44 PMODE1, 45 PMODE0, 46 NC, 47 NC, 48 AGND

## WS2812B
designator LED?
Intelligent controlLEDintegratedlight source
footprint WS2812-2020
pins: 1 DO (out), 2 GND (power), 3 DI (in), 4 VDD (power)

## XH 2pin
designator P?
very reliable and compact connectors; size: pitch:2mm
footprint XH CONNECTOR(PITCH:2MM)
pins: 1, 2

## XH 3pin
designator P?
very reliable and compact connectors; size: pitch:2mm
footprint XH 3PIN(PITCH:2.54mm)
pins: 1, 2, 3

## XH 6pin
designator P?
very reliable and compact connectors; size: pitch:2mm
footprint XH 6PIN RIGHT(PITCH:2.54MM)
pins: 1, 2, 3, 4, 5, 6

## XZM2DG55W-3
designator LED?
520nm 160° 745mcd Emerald Green 20mA 2mm x 1.25mm square LED 3.2V 525nm 1206 LED Indication; VALUE: LED SMD RED; SIZE: SMD 1206
footprint XZM2DG55W-3
pins: 1 A, 2 K

## XZM2MRTNI55W-8
designator LED?
5V 50mA 80mW 1206 LED Emitters - Infrared, UV, Visible RoHS
footprint XZM2MRTNI55W-8
pins: 1 K, 2 A, 3 A, 4 K

## ZENER DIODE
designator D?, comment 24V
ZENER DIODE SMD; Voltage: 24V; SIZE: SMD- Melf; VALUE: 24V
footprint MELF (Footprint not found)
footprint MINIMELF
footprint Zener Dip-1W (Footprint not found)
footprint SMA
footprint DO-34
pins: 1 A, 2 K